# EAGLE library part SJ2-35894D-SMT-TR (library SJ2-35894D-SMT-TR)
4 conductors, 3.5mm, SMT Audio Jack w/ 2 Switch Check availability <https://pricing.snapeda.com/parts/SJ2-35894D-SMT-TR/CUI%20Devices/view-part?ref=eda>
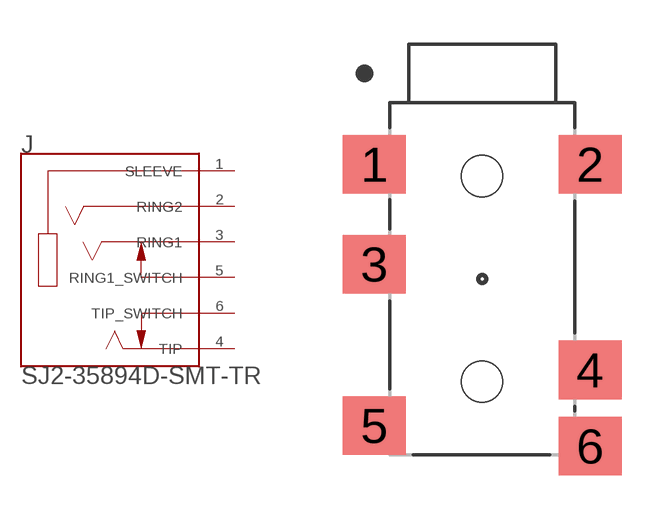
[diagram p0: symbol with the pads of CUI_SJ2-35894D-SMT-TR; footprint CUI_SJ2-35894D-SMT-TR]

Designator prefix J

## SJ2-35894D-SMT-TR (AVAILABILITY: In Stock; CUI_PURCHASE_URL: https://www.cuidevices.com/product/interconnect/connectors/audio-connectors/jacks/sj2-3589x-smt-series?utm_source=snapeda.com&utm_medium=referral&utm_campaign=snapedaBOM; DESCRIPTION: 3.5 mm, Stereo, Right Angle, Surface Mount (SMT), Audio Jack Connector; MF: CUI Devices; MP: SJ2-35894D-SMT-TR; PACKAGE: None; PRICE: None; PURCHASE-URL: https://pricing.snapeda.com/search/part/SJ2-35894D-SMT-TR/?ref=eda)  [CUI_SJ2-35894D-SMT-TR]
1  SLEEVE  pas
2  RING2  pas
3  RING1  pas
4  TIP  pas
5  RING1_SWITCH  pas
6  TIP_SWITCH  pas

## SJ2-35894D-SMT-TRHOOYA_3106  [CUI_SJ2-35894D-SMT-TR]
1  SLEEVE  pas
2  RING1  pas
3  RING2  pas
4  TIP  pas
5  TIP_SWITCH  pas
6  RING1_SWITCH  pas

## Footprint CUI_SJ2-35894D-SMT-TR (pad centres in mm)
smd 2.15 x 2: 1 -3.675,4.662; 2 3.675,4.662; 3 -3.675,1.262; 4 3.675,-2.338; 5 -3.675,-4.238; 6 3.675,-4.938
hole 1.4 at 0,4.262
hole 1.4 at 0,-2.738